# Altium schematic symbol library conn.SchLib: 47 symbols
Pins are listed as number, name and electrical type; pins without a type are passive.

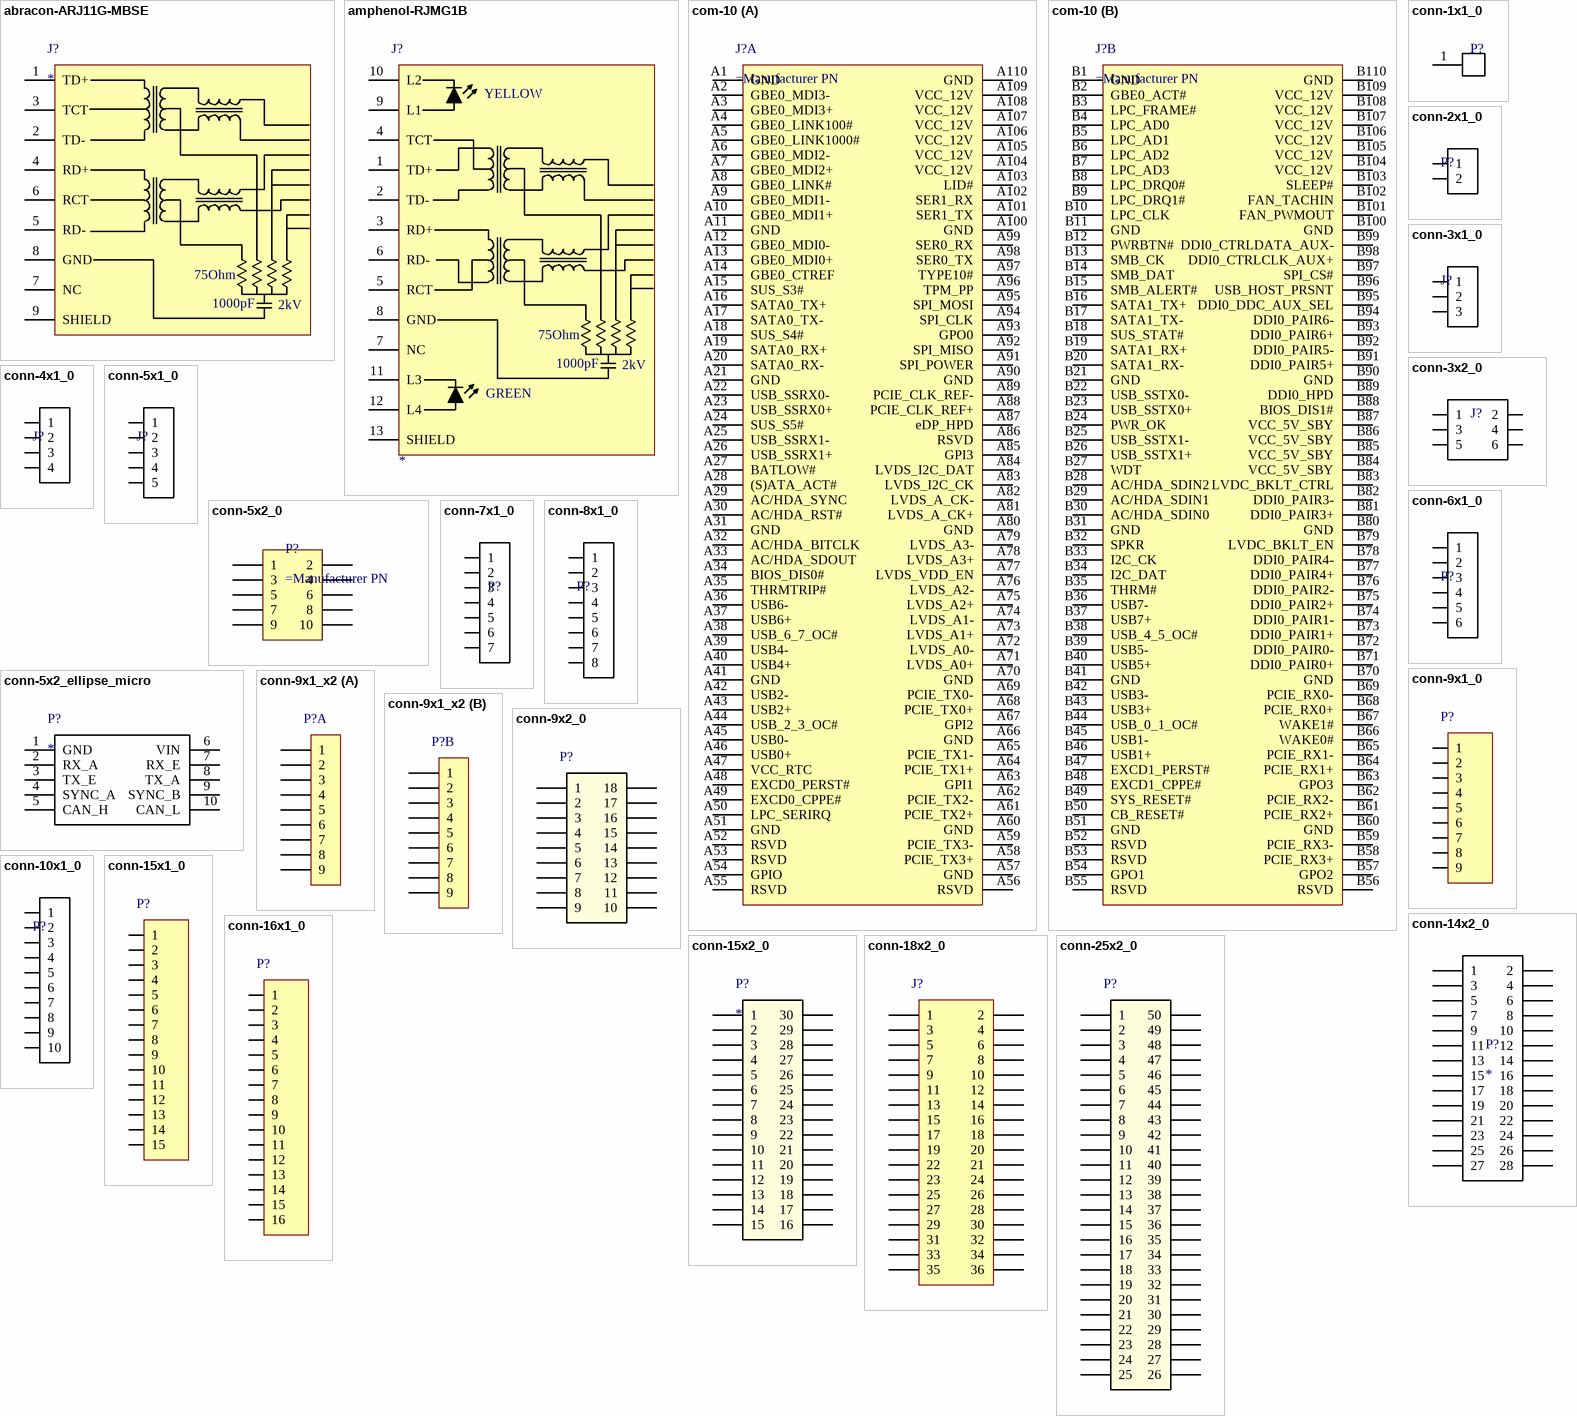
[diagram p0: symbols abracon-ARJ11G-MBSE to conn-25x2_0]

## abracon-ARJ11G-MBSE
designator J?
Abracon Mag Jack ARJ11G-MBSE; Manufacturer PN: *
pins: 1 TD+, 2 TD-, 3 TCT, 4 RD+, 5 RD-, 6 RCT, 7 NC, 8 GND, 9 SHIELD
text: 75Ohm; 1000pF; 2kV

## amphenol-RJMG1B
designator J?
Amphenol RJMG1B series Ethernet "Mag Jack"; Manufacturer PN: *
pins: 1 TD+, 2 TD-, 3 RD+, 4 TCT, 5 RCT, 6 RD-, 7 NC, 8 GND, 9 L1, 10 L2, 11 L3, 12 L4, 13 SHIELD
text: YELLOW; 75Ohm; 1000pF; 2kV; GREEN

## com-10
designator J?
part A pins: A1 GND, A2 GBE0_MDI3-, A3 GBE0_MDI3+, A4 GBE0_LINK100#, A5 GBE0_LINK1000#, A6 GBE0_MDI2-, A7 GBE0_MDI2+, A8 GBE0_LINK#, A9 GBE0_MDI1-, A10 GBE0_MDI1+, A11 GND, A12 GBE0_MDI0-, A13 GBE0_MDI0+, A14 GBE0_CTREF, A15 SUS_S3#, A16 SATA0_TX+, A17 SATA0_TX-, A18 SUS_S4#, A19 SATA0_RX+, A20 SATA0_RX-, A21 GND, A22 USB_SSRX0-, A23 USB_SSRX0+, A24 SUS_S5#, A25 USB_SSRX1-, A26 USB_SSRX1+, A27 BATLOW#, A28 (S)ATA_ACT#, A29 AC/HDA_SYNC, A30 AC/HDA_RST#, A31 GND, A32 AC/HDA_BITCLK, A33 AC/HDA_SDOUT, A34 BIOS_DIS0#, A35 THRMTRIP#, A36 USB6-, A37 USB6+, A38 USB_6_7_OC#, A39 USB4-, A40 USB4+, A41 GND, A42 USB2-, A43 USB2+, A44 USB_2_3_OC#, A45 USB0-, A46 USB0+, A47 VCC_RTC, A48 EXCD0_PERST#, A49 EXCD0_CPPE#, A50 LPC_SERIRQ, A51 GND, A52 RSVD, A53 RSVD, A54 GPIO, A55 RSVD, A56 RSVD, A57 GND, A58 PCIE_TX3+, A59 PCIE_TX3-, A60 GND, A61 PCIE_TX2+, A62 PCIE_TX2-, A63 GPI1, A64 PCIE_TX1+, A65 PCIE_TX1-, A66 GND, A67 GPI2, A68 PCIE_TX0+, A69 PCIE_TX0-, A70 GND, A71 LVDS_A0+, A72 LVDS_A0-, A73 LVDS_A1+, A74 LVDS_A1-, A75 LVDS_A2+, A76 LVDS_A2-, A77 LVDS_VDD_EN, A78 LVDS_A3+, A79 LVDS_A3-, A80 GND, A81 LVDS_A_CK+, A82 LVDS_A_CK-, A83 LVDS_I2C_CK, A84 LVDS_I2C_DAT, A85 GPI3, A86 RSVD, A87 eDP_HPD, A88 PCIE_CLK_REF+, A89 PCIE_CLK_REF-, A90 GND, A91 SPI_POWER, A92 SPI_MISO, A93 GPO0, A94 SPI_CLK, A95 SPI_MOSI, A96 TPM_PP, A97 TYPE10#, A98 SER0_TX, A99 SER0_RX, A100 GND, A101 SER1_TX, A102 SER1_RX, A103 LID#, A104 VCC_12V, A105 VCC_12V, A106 VCC_12V, A107 VCC_12V, A108 VCC_12V, A109 VCC_12V, A110 GND
part B pins: B1 GND, B2 GBE0_ACT#, B3 LPC_FRAME#, B4 LPC_AD0, B5 LPC_AD1, B6 LPC_AD2, B7 LPC_AD3, B8 LPC_DRQ0#, B9 LPC_DRQ1#, B10 LPC_CLK, B11 GND, B12 PWRBTN#, B13 SMB_CK, B14 SMB_DAT, B15 SMB_ALERT#, B16 SATA1_TX+, B17 SATA1_TX-, B18 SUS_STAT#, B19 SATA1_RX+, B20 SATA1_RX-, B21 GND, B22 USB_SSTX0-, B23 USB_SSTX0+, B24 PWR_OK, B25 USB_SSTX1-, B26 USB_SSTX1+, B27 WDT, B28 AC/HDA_SDIN2, B29 AC/HDA_SDIN1, B30 AC/HDA_SDIN0, B31 GND, B32 SPKR, B33 I2C_CK, B34 I2C_DAT, B35 THRM#, B36 USB7-, B37 USB7+, B38 USB_4_5_OC#, B39 USB5-, B40 USB5+, B41 GND, B42 USB3-, B43 USB3+, B44 USB_0_1_OC#, B45 USB1-, B46 USB1+, B47 EXCD1_PERST#, B48 EXCD1_CPPE#, B49 SYS_RESET#, B50 CB_RESET#, B51 GND, B52 RSVD, B53 RSVD, B54 GPO1, B55 RSVD, B56 RSVD, B57 GPO2, B58 PCIE_RX3+, B59 PCIE_RX3-, B60 GND, B61 PCIE_RX2+, B62 PCIE_RX2-, B63 GPO3, B64 PCIE_RX1+, B65 PCIE_RX1-, B66 WAKE0#, B67 WAKE1#, B68 PCIE_RX0+, B69 PCIE_RX0-, B70 GND, B71 DDI0_PAIR0+, B72 DDI0_PAIR0-, B73 DDI0_PAIR1+, B74 DDI0_PAIR1-, B75 DDI0_PAIR2+, B76 DDI0_PAIR2-, B77 DDI0_PAIR4+, B78 DDI0_PAIR4-, B79 LVDC_BKLT_EN, B80 GND, B81 DDI0_PAIR3+, B82 DDI0_PAIR3-, B83 LVDC_BKLT_CTRL, B84 VCC_5V_SBY, B85 VCC_5V_SBY, B86 VCC_5V_SBY, B87 VCC_5V_SBY, B88 BIOS_DIS1#, B89 DDI0_HPD, B90 GND, B91 DDI0_PAIR5+, B92 DDI0_PAIR5-, B93 DDI0_PAIR6+, B94 DDI0_PAIR6-, B95 DDI0_DDC_AUX_SEL, B96 USB_HOST_PRSNT, B97 SPI_CS#, B98 DDI0_CTRLCLK_AUX+, B99 DDI0_CTRLDATA_AUX-, B100 GND, B101 FAN_PWMOUT, B102 FAN_TACHIN, B103 SLEEP#, B104 VCC_12V, B105 VCC_12V, B106 VCC_12V, B107 VCC_12V, B108 VCC_12V, B109 VCC_12V, B110 GND

## conn-1x1_0
designator P?  (value not drawn)
Pad, 1x1, 8mm; Manufacturer PN: *
footprint PAD_RECT_1X1_8MM
footprint LITTELFUSE_122_FUSE_CLIP (Cartridge Fuse Clip, 1/4" diameter, 01220093Z)
pins: 1 P

## conn-2x1_0
designator P?  (value not drawn)
Connector, 2x1
footprint hddr_2x1_0 (0.1" Header 2x1)
footprint BARR_0.5IN_2x1_0 (Barrier Block, 0.5" Pitch, 2 Pos, 1 Level, Molex 38969)
footprint TERM_5.08MM_2X1
pins: 1, 2

## conn-3x1_0
designator J?  (value not drawn)
Connector, 3x1
footprint hddr_3x1_0 (0.1" Header 3x1)
footprint TERM_5MM_3X1_0 (Terminal Block, 5mm Pitch, 3 Pos, 1 Level)
footprint TERM_5.08MM_3x1
pins: 1, 2, 3

## conn-3x2_0
designator J?  (value not drawn)
Connector, 3x2
footprint hddr_3x2_0 (0.1" Header 3x2)
pins: 1, 2, 3, 4, 5, 6

## conn-4x1_0
designator J?  (value not drawn)
Connector, 4x1
footprint JST_XH_4_0 (JST XH Through Hole Connector, 4 pins)
pins: 1, 2, 3, 4

## conn-5x1_0
designator J?  (value not drawn)
Connector, 5x1
footprint BARR_0.325IN_6X1_0 (Barrier Block, 0.325" Pitch, 6 Pos, 1 Level, On Shore OSTYK42)
footprint JST_PHR_5_0
pins: 1, 2, 3, 4, 5

## conn-5x2_0
designator P?
Connector, 5x2
pins: 1, 2, 3, 4, 5, 6, 7, 8, 9, 10

## conn-5x2_ellipse_micro
designator P?
Connector for the Ellipse Micro IMU
pins: 1 GND, 2 RX_A, 3 TX_E, 4 SYNC_A, 5 CAN_H, 6 VIN, 7 RX_E, 8 TX_A, 9 SYNC_B, 10 CAN_L

## conn-6x1_0
designator P?  (value not drawn)
Connector, 6x1
footprint BARR_0.325IN_6X1_0 (Barrier Block, 0.325" Pitch, 6 Pos, 1 Level, On Shore OSTYK42)
footprint JST_PHR_6_0
pins: 1, 2, 3, 4, 5, 6

## conn-7x1_0
designator P?  (value not drawn)
Connector, 7x1
footprint JST_PHR_7_0
pins: 1, 2, 3, 4, 5, 6, 7

## conn-8x1_0
designator P?  (value not drawn)
Connector, 8x1
footprint hddr_8x1_0 (0.1" Header 6x1)
pins: 1, 2, 3, 4, 5, 6, 7, 8

## conn-9x1_0
designator P?  (value not drawn)
Connector, 9x1
pins: 1, 2, 3, 4, 5, 6, 7, 8, 9

## conn-9x1_x2
designator P?  (value not drawn)
2-part 9-pin connector; Manufacturer PN: *
part A pins: 1, 2, 3, 4, 5, 6, 7, 8, 9
part B pins: 10 1, 11 2, 12 3, 13 4, 14 5, 15 6, 16 7, 17 8, 18 9

## conn-9x2_0
designator P?  (value not drawn)
Connector, 9x2
pins: 1, 2, 3, 4, 5, 6, 7, 8, 9, 10, 11, 12, 13, 14, 15, 16, 17, 18

## conn-10x1_0
designator P?  (value not drawn)
Connector, 10x1
footprint hddr_10x1_0 (0.1" Header 10x1)
pins: 1, 2, 3, 4, 5, 6, 7, 8, 9, 10

## conn-14x2_0
designator P?
Connector, 14x2
footprint HDDR_14x2_0
pins: 1, 2, 3, 4, 5, 6, 7, 8, 9, 10, 11, 12, 13, 14, 15, 16, 17, 18, 19, 20, 21, 22, 23, 24, 25, 26, 27, 28

## conn-15x1_0
designator P?  (value not drawn)
Connector, 15x1
pins: 1, 2, 3, 4, 5, 6, 7, 8, 9, 10, 11, 12, 13, 14, 15

## conn-15x2_0
designator P?
Connector, 15x2
pins: 1, 2, 3, 4, 5, 6, 7, 8, 9, 10, 11, 12, 13, 14, 15, 16, 17, 18, 19, 20, 21, 22, 23, 24, 25, 26, 27, 28, 29, 30

## conn-16x1_0
designator P?  (value not drawn)
Connector, 16x1; Manufacturer PN: *
pins: 1, 2, 3, 4, 5, 6, 7, 8, 9, 10, 11, 12, 13, 14, 15, 16

## conn-18x2_0
designator J?  (value not drawn)
Connector, 18x2 (36-pin)
pins: 1, 2, 3, 4, 5, 6, 7, 8, 9, 10, 11, 12, 13, 14, 15, 16, 17, 18, 19, 20, 21, 22, 23, 24, 25, 26, 27, 28, 29, 30, 31, 32, 33, 34, 35, 36

## conn-25x2_0
designator P?  (value not drawn)
Connector, 25x2
pins: 1, 2, 3, 4, 5, 6, 7, 8, 9, 10, 11, 12, 13, 14, 15, 16, 17, 18, 19, 20, 21, 22, 23, 24, 25, 26, 27, 28, 29, 30, 31, 32, 33, 34, 35, 36, 37, 38, 39, 40, 41, 42, 43, 44, 45, 46, 47, 48, 49, 50

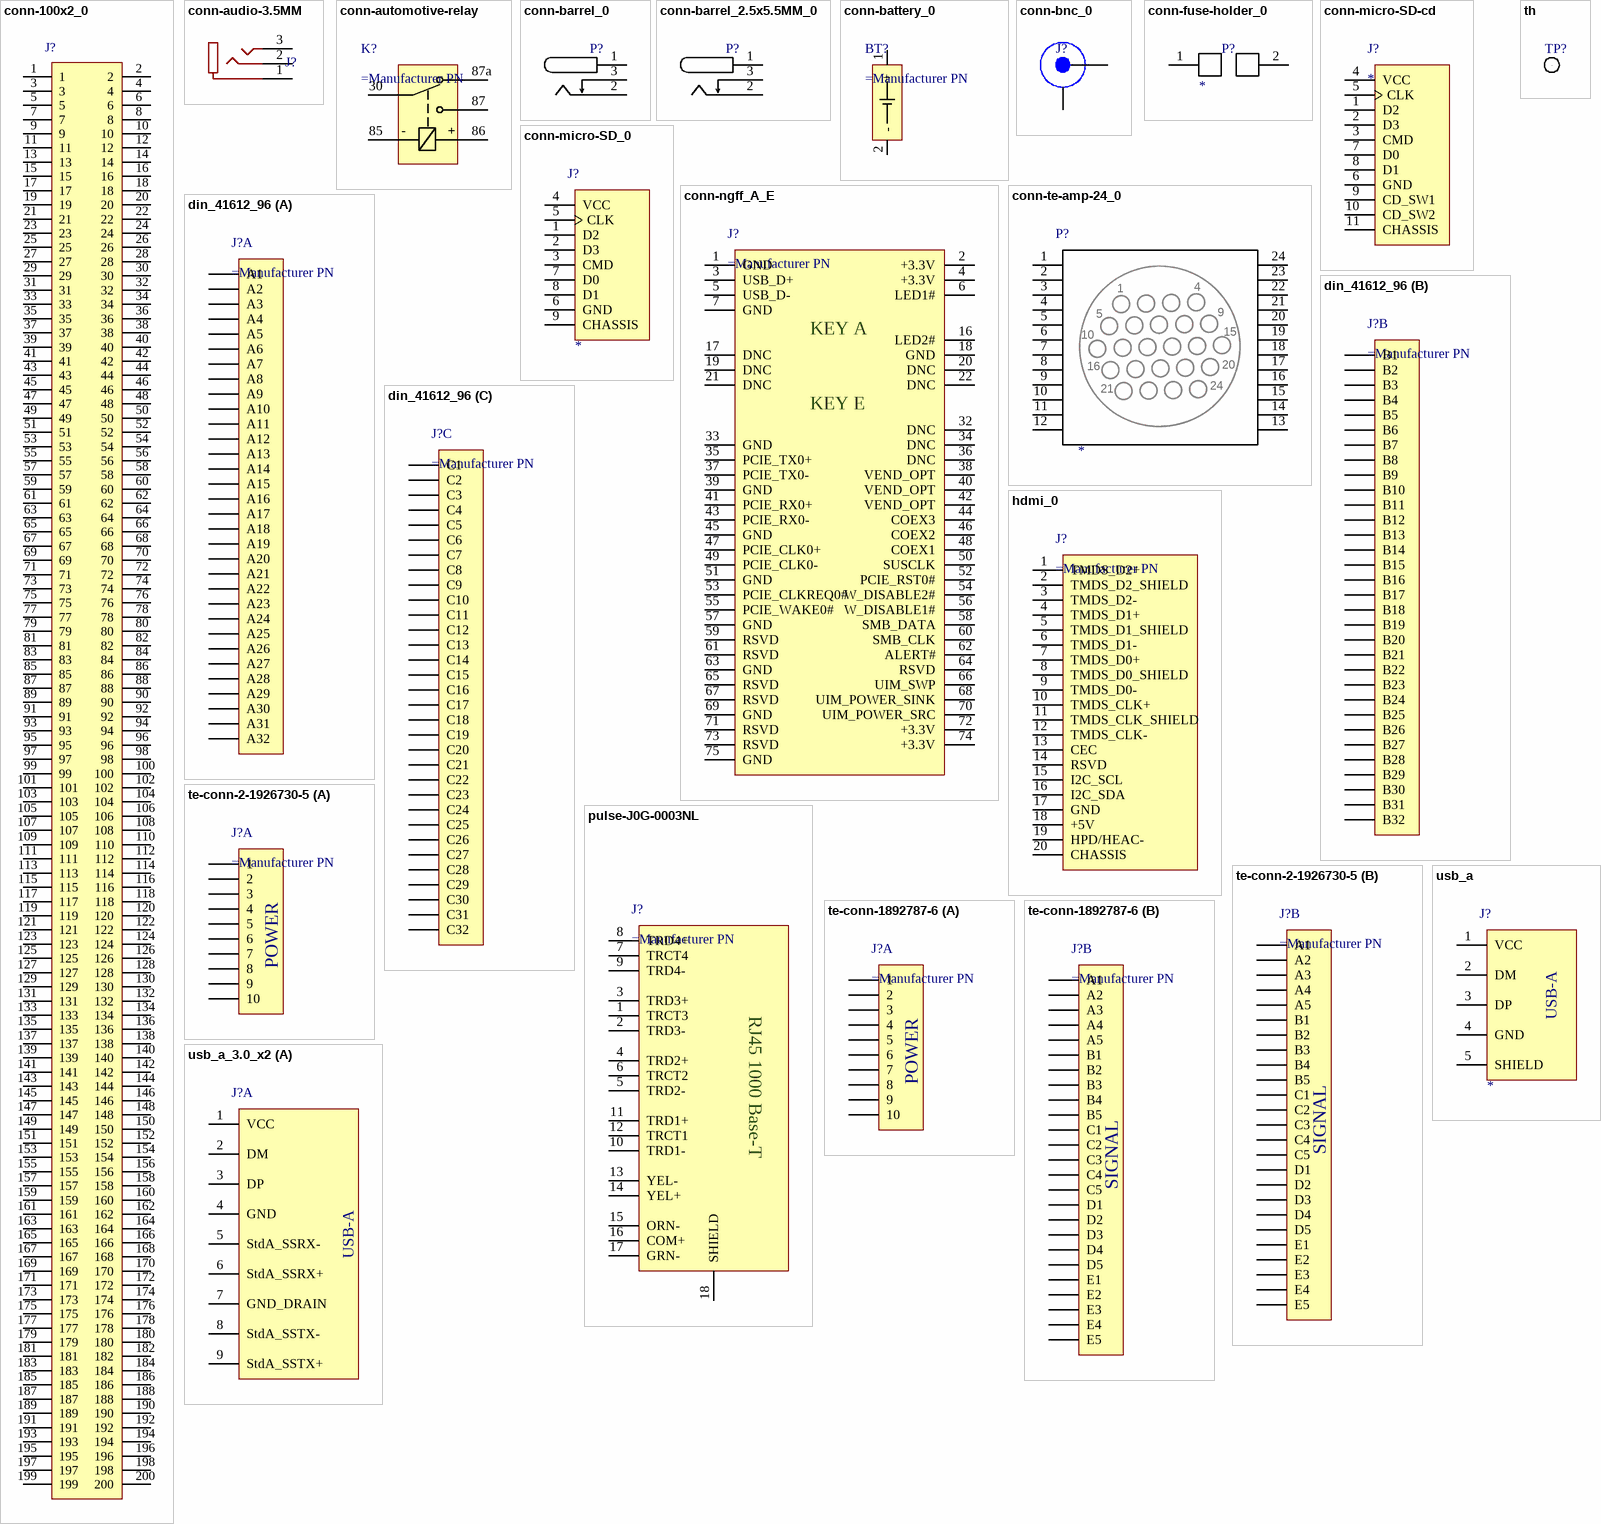
[diagram p1: symbols conn-100x2_0 to usb_a_3.0_x2]

## conn-100x2_0
designator J?  (value not drawn)
Connector, 100x2 (200-pin)
pins: 1, 2, 3, 4, 5, 6, 7, 8, 9, 10, 11, 12, 13, 14, 15, 16, 17, 18, 19, 20, 21, 22, 23, 24, 25, 26, 27, 28, 29, 30, 31, 32, 33, 34, 35, 36, 37, 38, 39, 40, 41, 42, 43, 44, 45, 46, 47, 48, 49, 50, 51, 52, 53, 54, 55, 56, 57, 58, 59, 60, 61, 62, 63, 64, 65, 66, 67, 68, 69, 70, 71, 72, 73, 74, 75, 76, 77, 78, 79, 80, 81, 82, 83, 84, 85, 86, 87, 88, 89, 90, 91, 92, 93, 94, 95, 96, 97, 98, 99, 100, 101, 102, 103, 104, 105, 106, 107, 108, 109, 110, 111, 112, 113, 114, 115, 116, 117, 118, 119, 120, 121, 122, 123, 124, 125, 126, 127, 128, 129, 130, 131, 132, 133, 134, 135, 136, 137, 138, 139, 140, 141, 142, 143, 144, 145, 146, 147, 148, 149, 150, 151, 152, 153, 154, 155, 156, 157, 158, 159, 160, 161, 162, 163, 164, 165, 166, 167, 168, 169, 170, 171, 172, 173, 174, 175, 176, 177, 178, 179, 180, 181, 182, 183, 184, 185, 186, 187, 188, 189, 190, 191, 192, 193, 194, 195, 196, 197, 198, 199, 200

## conn-audio-3.5MM
designator J?  (value not drawn)
3.5mm Audio Jack; Manufacturer PN: *
pins: 1, 2, 3

## conn-automotive-relay
designator K?
Type A Relay socket
pins: 30, 85 -, 86 +, 87, 87a

## conn-barrel_0
designator P?  (value not drawn)
Manufacturer PN: *
pins: 1 VCC, 2 GND, 3

## conn-barrel_2.5x5.5MM_0
designator P?  (value not drawn)
Manufacturer PN: *
pins: 1 VCC, 2 GND, 3

## conn-battery_0
designator BT?
Battery Holder
pins: 1 +, 2 -

## conn-bnc_0
designator J?  (value not drawn)
BNC Connector; Manufacturer PN: *
pins: 1, 2

## conn-fuse-holder_0
designator P?
Fuse Holder; Current: *A; Manufacturer PN: *
footprint FUSE_HOLDER_KEYSTONE_3557-2
pins: 1, 2

## conn-micro-SD-cd
designator J?
MicroSD Card Connector w/ Card Detect Switch; Manufacturer PN: *
pins: 1 D2, 2 D3, 3 CMD, 4 VCC, 5 CLK, 6 GND, 7 D0, 8 D1, 9 CD_SW1, 10 CD_SW2, 11 CHASSIS

## conn-micro-SD_0
designator J?
MicroSD Card Connector; Manufacturer PN: *
pins: 1 D2, 2 D3, 3 CMD, 4 VCC, 5 CLK, 6 GND, 7 D0, 8 D1, 9 CHASSIS

## conn-ngff_A_E
designator J?
NGFF (M.2) A+E keyed connector
pins: 1 GND, 2 +3.3V, 3 USB_D+, 4 +3.3V, 5 USB_D-, 6 LED1#, 7 GND, 16 LED2#, 17 DNC, 18 GND, 19 DNC, 20 DNC, 21 DNC, 22 DNC, 32 DNC, 33 GND, 34 DNC, 35 PCIE_TX0+, 36 DNC, 37 PCIE_TX0-, 38 VEND_OPT, 39 GND, 40 VEND_OPT, 41 PCIE_RX0+, 42 VEND_OPT, 43 PCIE_RX0-, 44 COEX3, 45 GND, 46 COEX2, 47 PCIE_CLK0+, 48 COEX1, 49 PCIE_CLK0-, 50 SUSCLK, 51 GND, 52 PCIE_RST0#, 53 PCIE_CLKREQ0#, 54 W_DISABLE2#, 55 PCIE_WAKE0#, 56 W_DISABLE1#, 57 GND, 58 SMB_DATA, 59 RSVD, 60 SMB_CLK, 61 RSVD, 62 ALERT#, 63 GND, 64 RSVD, 65 RSVD, 66 UIM_SWP, 67 RSVD, 68 UIM_POWER_SINK, 69 GND, 70 UIM_POWER_SRC, 71 RSVD, 72 +3.3V, 73 RSVD, 74 +3.3V, 75 GND
text: KEY A; KEY E

## conn-te-amp-24_0
designator P?
Manufacturer PN: *
footprint TE_AMP_796387
pins: 1, 2, 3, 4, 5, 6, 7, 8, 9, 10, 11, 12, 13, 14, 15, 16, 17, 18, 19, 20, 21, 22, 23, 24

## din_41612_96
designator J?
DIN 41612 96 pin connector
part A pins: A1, A2, A3, A4, A5, A6, A7, A8, A9, A10, A11, A12, A13, A14, A15, A16, A17, A18, A19, A20, A21, A22, A23, A24, A25, A26, A27, A28, A29, A30, A31, A32
part B pins: B1, B2, B3, B4, B5, B6, B7, B8, B9, B10, B11, B12, B13, B14, B15, B16, B17, B18, B19, B20, B21, B22, B23, B24, B25, B26, B27, B28, B29, B30, B31, B32
part C pins: C1, C2, C3, C4, C5, C6, C7, C8, C9, C10, C11, C12, C13, C14, C15, C16, C17, C18, C19, C20, C21, C22, C23, C24, C25, C26, C27, C28, C29, C30, C31, C32

## hdmi_0
designator J?
HDMI Connector symbol
pins: 1 TMDS_D2+, 2 TMDS_D2_SHIELD, 3 TMDS_D2-, 4 TMDS_D1+, 5 TMDS_D1_SHIELD, 6 TMDS_D1-, 7 TMDS_D0+, 8 TMDS_D0_SHIELD, 9 TMDS_D0-, 10 TMDS_CLK+, 11 TMDS_CLK_SHIELD, 12 TMDS_CLK-, 13 CEC, 14 RSVD, 15 I2C_SCL, 16 I2C_SDA, 17 GND, 18 +5V, 19 HPD/HEAC-, 20 CHASSIS

## pulse-J0G-0003NL
designator J?
pins: 1 TRCT3, 2 TRD3-, 3 TRD3+, 4 TRD2+, 5 TRD2-, 6 TRCT2, 7 TRCT4, 8 TRD4+, 9 TRD4-, 10 TRD1-, 11 TRD1+, 12 TRCT1, 13 YEL-, 14 YEL+, 15 ORN-, 16 COM+, 17 GRN-, 18 SHIELD
text: RJ45 1000 Base-T

## te-conn-2-1926730-5
designator J?
part A pins: 1, 2, 3, 4, 5, 6, 7, 8, 9, 10
part B pins: A1, A2, A3, A4, A5, B1, B2, B3, B4, B5, C1, C2, C3, C4, C5, D1, D2, D3, D4, D5, E1, E2, E3, E4, E5
part A text: POWER
part B text: SIGNAL

## te-conn-1892787-6
designator J?
part A pins: 1, 2, 3, 4, 5, 6, 7, 8, 9, 10
part B pins: A1, A2, A3, A4, A5, B1, B2, B3, B4, B5, C1, C2, C3, C4, C5, D1, D2, D3, D4, D5, E1, E2, E3, E4, E5
part A text: POWER
part B text: SIGNAL

## th
designator TP?  (value not drawn)
footprint th_30 (0.03" Diameter Through Hole)
pins: 1

## usb_a
designator J?
USB type A jack; Manufacturer PN: *
pins: 1 VCC, 2 DM, 3 DP, 4 GND, 5 SHIELD
text: USB-A

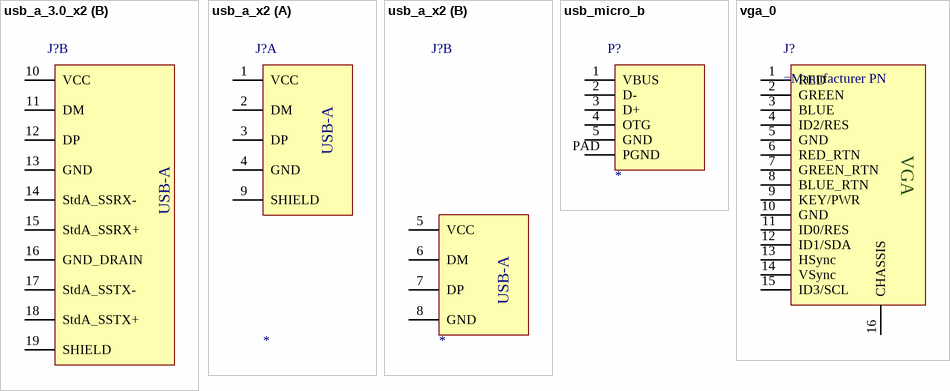
[diagram p2: symbols usb_a_3.0_x2 to vga_0]

## usb_a_3.0_x2
designator J?
USB 3.0 type A jack, Double Decker
part A pins: 1 VCC, 2 DM, 3 DP, 4 GND, 5 StdA_SSRX-, 6 StdA_SSRX+, 7 GND_DRAIN, 8 StdA_SSTX-, 9 StdA_SSTX+
part B pins: 10 VCC, 11 DM, 12 DP, 13 GND, 14 StdA_SSRX-, 15 StdA_SSRX+, 16 GND_DRAIN, 17 StdA_SSTX-, 18 StdA_SSTX+, 19 SHIELD
part A text: USB-A
part B text: USB-A

## usb_a_x2
designator J?
USB type A jack, Double Decker; Manufacturer PN: *
part A pins: 1 VCC, 2 DM, 3 DP, 4 GND, 9 SHIELD
part B pins: 5 VCC, 6 DM, 7 DP, 8 GND
part A text: USB-A
part B text: USB-A

## usb_micro_b
designator P?
USB Micro B; Manufacturer PN: *
pins: 1 VBUS, 2 D-, 3 D+, 4 OTG, 5 GND, PAD PGND

## vga_0
designator J?
15-pin VGA Connector
pins: 1 RED, 2 GREEN, 3 BLUE, 4 ID2/RES, 5 GND, 6 RED_RTN, 7 GREEN_RTN, 8 BLUE_RTN, 9 KEY/PWR, 10 GND, 11 ID0/RES, 12 ID1/SDA, 13 HSync, 14 VSync, 15 ID3/SCL, 16 CHASSIS
text: VGA